# Altium schematic symbol library Broadcom.SchLib: 1 symbol
Pins are listed as number, name and electrical type; pins without a type are passive.

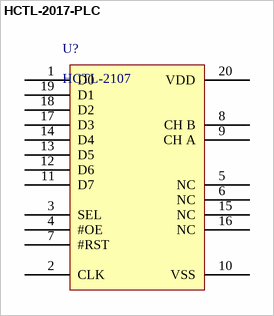
[diagram p0: symbol HCTL-2017-PLC]

## HCTL-2017-PLC
designator U?, comment HCTL-2107
pins: 1 D0, 2 CLK, 3 SEL, 4 #OE, 5 NC, 6 NC, 7 #RST, 8 CH B, 9 CH A, 10 VSS, 11 D7, 12 D6, 13 D5, 14 D4, 15 NC, 16 NC, 17 D3, 18 D2, 19 D1, 20 VDD